# EAGLE library part DRQ-12/50 (library power_converters)
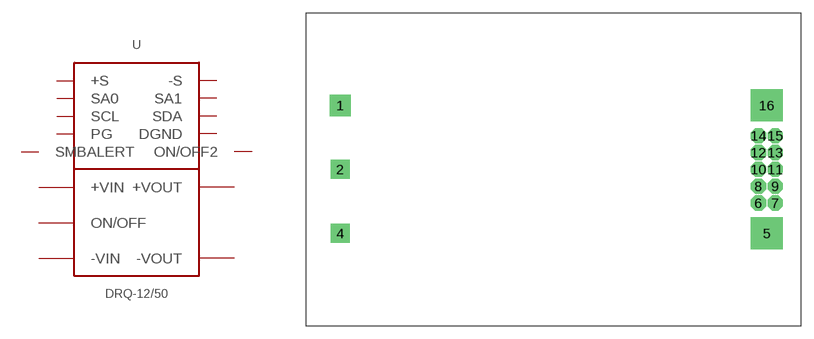
[diagram p0: symbol with the pads of DRQ-12/50; footprint DRQ-12/50]

Designator prefix -

## DRQ-12/50  [DRQ-12/50]
1  +VIN
2  ON/OFF
4  -VIN
5  -VOUT
6  +S  in
7  -S  in
8  SA0  in
9  SA1  in
10  SCL  in
11  SDA  in
12  PG  in
13  DGND  in
14  SMBALERT  in
15  ON/OFF2  in
16  +VOUT

## Footprint DRQ-12/50 (pad centres in mm)
drill 1.5 pad 2.54 square: 1 -25.4,7.62
drill 1.5 square: 2 -25.4,0; 4 -25.4,-7.62
drill 2.2 pad 3.81 square: 5 25.4,-7.62; 16 25.4,7.62
drill 1.2 pad 1.676 octagon: 6 24.409,-4.013; 7 26.416,-4.013; 8 24.409,-2.007; 9 26.416,-2.007; 10 24.409,0; 11 26.416,0; 12 24.409,2.007; 13 26.416,2.007; 14 24.409,4.013; 15 26.416,4.013